# Altium schematic symbol library SCH - MCU - STM32 - ST MICROELECTRONICS STM32L562CETX LQFP48.SchLib: 1 symbol
Pins are listed as number, name and electrical type; pins without a type are passive.

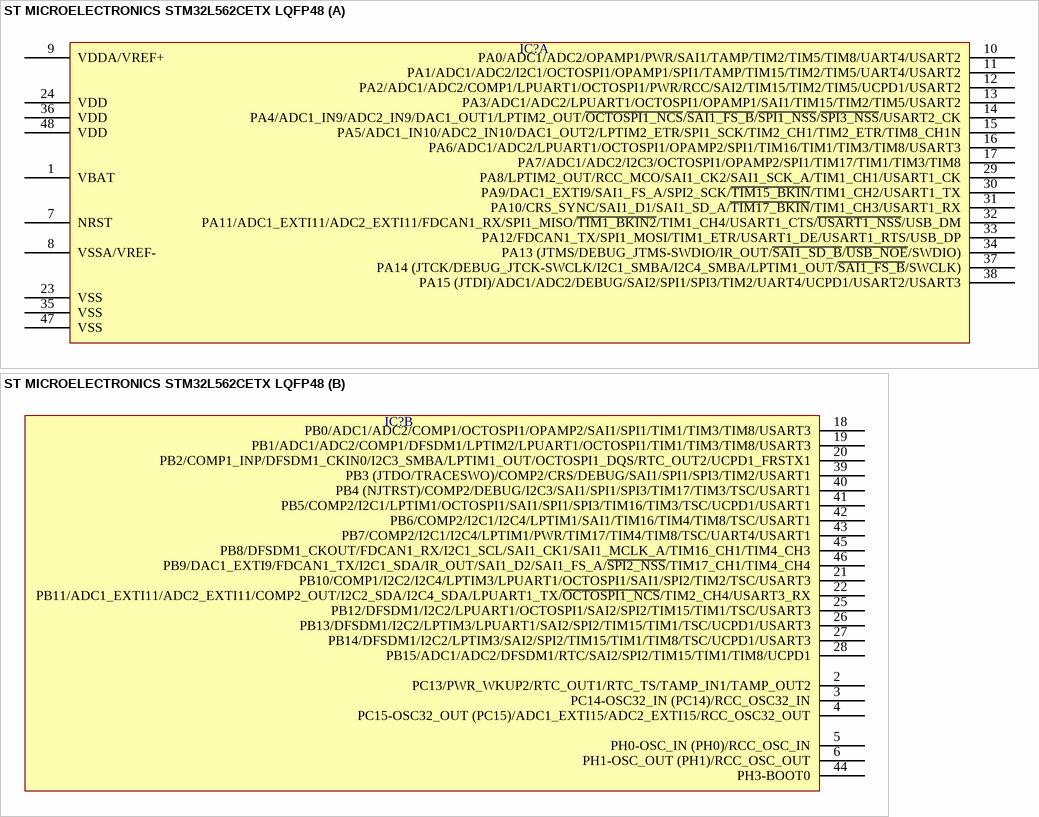
[diagram p0: symbol ST MICROELECTRONICS STM32L562CETX LQFP48]

## ST MICROELECTRONICS STM32L562CETX LQFP48
designator IC?  (value not drawn)
part A pins: 1 VBAT, 7 NRST, 8 VSSA/VREF-, 9 VDDA/VREF+, 10 PA0/ADC1/ADC2/OPAMP1/PWR/SAI1/TAMP/TIM2/TIM5/TIM8/UART4/USART2, 11 PA1/ADC1/ADC2/I2C1/OCTOSPI1/OPAMP1/SPI1/TAMP/TIM15/TIM2/TIM5/UART4/USART2, 12 PA2/ADC1/ADC2/COMP1/LPUART1/OCTOSPI1/PWR/RCC/SAI2/TIM15/TIM2/TIM5/UCPD1/USART2, 13 PA3/ADC1/ADC2/LPUART1/OCTOSPI1/OPAMP1/SAI1/TIM15/TIM2/TIM5/USART2, 14 PA4/ADC1_IN9/ADC2_IN9/DAC1_OUT1/LPTIM2_OUT/~{OCTOSPI1_NCS}/~{SAI1_FS_B}/~{SPI1_NSS}/~{SPI3_NSS}/USART2_CK, 15 PA5/ADC1_IN10/ADC2_IN10/DAC1_OUT2/LPTIM2_ETR/SPI1_SCK/TIM2_CH1/TIM2_ETR/TIM8_CH1N, 16 PA6/ADC1/ADC2/LPUART1/OCTOSPI1/OPAMP2/SPI1/TIM16/TIM1/TIM3/TIM8/USART3, 17 PA7/ADC1/ADC2/I2C3/OCTOSPI1/OPAMP2/SPI1/TIM17/TIM1/TIM3/TIM8, 23 VSS, 24 VDD, 29 PA8/LPTIM2_OUT/RCC_MCO/SAI1_CK2/SAI1_SCK_A/TIM1_CH1/USART1_CK, 30 PA9/DAC1_EXTI9/SAI1_FS_A/SPI2_SCK/~{TIM15_BKIN}/TIM1_CH2/USART1_TX, 31 PA10/CRS_SYNC/SAI1_D1/SAI1_SD_A/~{TIM17_BKIN}/TIM1_CH3/USART1_RX, 32 PA11/ADC1_EXTI11/ADC2_EXTI11/FDCAN1_RX/SPI1_MISO/~{TIM1_BKIN2}/TIM1_CH4/USART1_CTS/~{USART1_NSS}/USB_DM, 33 PA12/FDCAN1_TX/SPI1_MOSI/TIM1_ETR/USART1_DE/USART1_RTS/USB_DP, 34 PA13 (JTMS/DEBUG_JTMS-SWDIO/IR_OUT/~{SAI1_SD_B}/~{USB_NOE}/SWDIO), 35 VSS, 36 VDD, 37 PA14 (JTCK/DEBUG_JTCK-SWCLK/I2C1_SMBA/I2C4_SMBA/LPTIM1_OUT/~{SAI1_FS_B}/SWCLK), 38 PA15 (JTDI)/ADC1/ADC2/DEBUG/SAI2/SPI1/SPI3/TIM2/UART4/UCPD1/USART2/USART3, 47 VSS, 48 VDD
part B pins: 2 PC13/PWR_WKUP2/RTC_OUT1/RTC_TS/TAMP_IN1/TAMP_OUT2, 3 PC14-OSC32_IN (PC14)/RCC_OSC32_IN, 4 PC15-OSC32_OUT (PC15)/ADC1_EXTI15/ADC2_EXTI15/RCC_OSC32_OUT, 5 PH0-OSC_IN (PH0)/RCC_OSC_IN, 6 PH1-OSC_OUT (PH1)/RCC_OSC_OUT, 18 PB0/ADC1/ADC2/COMP1/OCTOSPI1/OPAMP2/SAI1/SPI1/TIM1/TIM3/TIM8/USART3, 19 PB1/ADC1/ADC2/COMP1/DFSDM1/LPTIM2/LPUART1/OCTOSPI1/TIM1/TIM3/TIM8/USART3, 20 PB2/COMP1_INP/DFSDM1_CKIN0/I2C3_SMBA/LPTIM1_OUT/OCTOSPI1_DQS/RTC_OUT2/UCPD1_FRSTX1, 21 PB10/COMP1/I2C2/I2C4/LPTIM3/LPUART1/OCTOSPI1/SAI1/SPI2/TIM2/TSC/USART3, 22 PB11/ADC1_EXTI11/ADC2_EXTI11/COMP2_OUT/I2C2_SDA/I2C4_SDA/LPUART1_TX/~{OCTOSPI1_NCS}/TIM2_CH4/USART3_RX, 25 PB12/DFSDM1/I2C2/LPUART1/OCTOSPI1/SAI2/SPI2/TIM15/TIM1/TSC/USART3, 26 PB13/DFSDM1/I2C2/LPTIM3/LPUART1/SAI2/SPI2/TIM15/TIM1/TSC/UCPD1/USART3, 27 PB14/DFSDM1/I2C2/LPTIM3/SAI2/SPI2/TIM15/TIM1/TIM8/TSC/UCPD1/USART3, 28 PB15/ADC1/ADC2/DFSDM1/RTC/SAI2/SPI2/TIM15/TIM1/TIM8/UCPD1, 39 PB3 (JTDO/TRACESWO)/COMP2/CRS/DEBUG/SAI1/SPI1/SPI3/TIM2/USART1, 40 PB4 (NJTRST)/COMP2/DEBUG/I2C3/SAI1/SPI1/SPI3/TIM17/TIM3/TSC/USART1, 41 PB5/COMP2/I2C1/LPTIM1/OCTOSPI1/SAI1/SPI1/SPI3/TIM16/TIM3/TSC/UCPD1/USART1, 42 PB6/COMP2/I2C1/I2C4/LPTIM1/SAI1/TIM16/TIM4/TIM8/TSC/USART1, 43 PB7/COMP2/I2C1/I2C4/LPTIM1/PWR/TIM17/TIM4/TIM8/TSC/UART4/USART1, 44 PH3-BOOT0, 45 PB8/DFSDM1_CKOUT/FDCAN1_RX/I2C1_SCL/SAI1_CK1/SAI1_MCLK_A/TIM16_CH1/TIM4_CH3, 46 PB9/DAC1_EXTI9/FDCAN1_TX/I2C1_SDA/IR_OUT/SAI1_D2/SAI1_FS_A/~{SPI2_NSS}/TIM17_CH1/TIM4_CH4